# Altium schematic symbol library L78L33ACD13TR.SchLib: 1 symbol
Pins are listed as number, name and electrical type; pins without a type are passive.

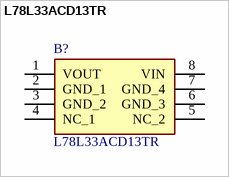
[diagram p0: symbol L78L33ACD13TR]

## L78L33ACD13TR
designator B?
Linear Voltage Regulators 3.3V 0.1A Positive; Manufacturer_Name: STMicroelectronics; Geometry.Height: 1.75mm; Mouser Part Number: 511-L78L33ACD-TR; Mouser Price/Stock: https://www.mouser.co.uk/ProductDetail/STMicroelectronics/L78L33ACD13TR?qs=IvJi5hqn0Wq3%252BWf1YegaPg%3D%3D; Manufacturer_Part_Number: L78L33ACD13TR; Datasheet Link: https://www.st.com/resource/en/datasheet/l78l.pdf
footprint SOIC127P600X175-8N
pins: 1 VOUT, 2 GND_1, 3 GND_2, 4 NC_1, 5 NC_2, 6 GND_3, 7 GND_4, 8 VIN